# Altium footprint library con-amp-mt.PCBLIB: 51 footprints (part 4 of 4)
Each footprint in its own frame and in the unit in brackets; x right, y up, seen from the top. Pads: shape width x height; smd on the part's side, far side on the other; paste and mask are expansions set on the pad; w line width, h text height; cw(c..) or ccw(c..) is an arc to the next point about the centre after c.
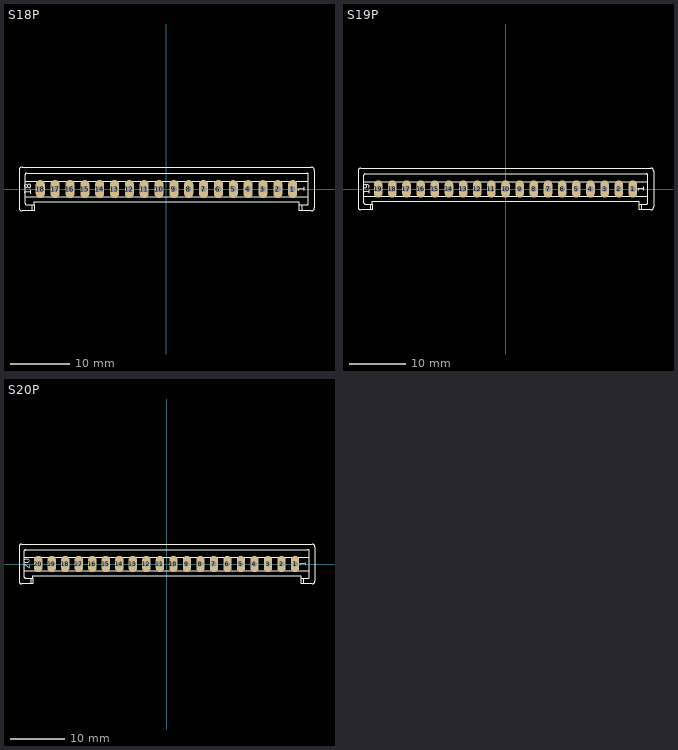
[diagram p3: the footprints below, top view; thin cyan lines are the x and y axes]

## S18P [mil]
pads (18):
  oval 60x120 hole 40: 1(836.61,0) 2(738.19,0) 3(639.76,0) 4(541.34,0) 5(442.91,0) 6(344.49,0) 7(246.06,0) 8(147.64,0) 9(49.21,0) 10(-49.21,0) 11(-147.64,0) 12(-246.06,0) 13(-344.49,0) 14(-442.91,0) 15(-541.34,0) 16(-639.39,0) 17(-738.39,0) 18(-836.39,0)
Top Overlay:
  lines w2: -892.4,-145 -892.4,-105 ; 895.63,-145 895.63,-105
  lines w6: -937.4,-50 -937.4,-95 ccw(c-927.4,-95) -927.4,-105 -892.4,-105 -877.4,-105 ; -937.4,-50 940.63,-50 ; -937.4,-50 -937.4,50 ; -937.4,50 940.63,50 ; -937.4,50 -937.4,95 cw(c-927.4,95) -927.4,105 930.63,105 cw(c930.63,95) 940.63,95 940.63,50 ; -877.4,-105 -877.4,-145 -892.4,-145 -957.4,-145 cw(c-957.4,-125) -977.4,-125 -977.4,125 cw(c-957.4,125) -957.4,145 960.63,145 cw(c960.63,125) 980.63,125 980.63,-125 cw(c960.63,-125) 960.63,-145 895.63,-145 880.63,-145 880.63,-105 ; -877.4,-105 -877.4,-85 880.63,-85 880.63,-105 ; 880.63,-105 895.63,-105 930.63,-105 ccw(c930.63,-95) 940.63,-95 940.63,-50 ; 940.63,-50 940.63,50
  text "1" at 933.61,-20 h77.5
  text "18" at -879.39,-40 h77.5
Mechanical 16:
  lines w6: -851.38,-15 -821.38,-15 ; -851.38,-15 -851.38,15 ; -851.38,-15 -821.38,15 ; -851.38,15 -821.38,15 ; -851.38,15 -821.38,-15 ; -821.38,-15 -821.38,15 ; -753.39,-15 -723.39,-15 ; -753.39,-15 -753.39,15 ; -753.39,-15 -723.39,15 ; -753.39,15 -723.39,15 ; -753.39,15 -723.39,-15 ; -723.39,-15 -723.39,15 ; -654.37,-15 -624.37,-15 ; -654.37,-15 -654.37,15 ; -654.37,-15 -624.37,15 ; -654.37,15 -624.37,15 ; -654.37,15 -624.37,-15 ; -624.37,-15 -624.37,15 ; -556.38,-15 -526.38,-15 ; -556.38,-15 -556.38,15 ; -556.38,-15 -526.38,15 ; -556.38,15 -526.38,15 ; -556.38,15 -526.38,-15 ; -526.38,-15 -526.38,15 ; -458.39,-15 -428.39,-15 ; -458.39,-15 -458.39,15 ; -458.39,-15 -428.39,15 ; -458.39,15 -428.39,15 ; -458.39,15 -428.39,-15 ; -428.39,-15 -428.39,15 ; -359.37,-15 -329.37,-15 ; -359.37,-15 -359.37,15 ; -359.37,-15 -329.37,15 ; -359.37,15 -329.37,15 ; -359.37,15 -329.37,-15 ; -329.37,-15 -329.37,15 ; -261.38,-15 -231.38,-15 ; -261.38,-15 -261.38,15 ; -261.38,-15 -231.38,15 ; -261.38,15 -231.38,15 ; -261.38,15 -231.38,-15 ; -231.38,-15 -231.38,15 ; -162.4,-15 -132.4,-15 ; -162.4,-15 -162.4,15 ; -162.4,-15 -132.4,15 ; -162.4,15 -132.4,15 ; -162.4,15 -132.4,-15 ; -132.4,-15 -132.4,15 ; -64.37,-15 -34.37,-15 ; -64.37,-15 -64.37,15 ; -64.37,-15 -34.37,15 ; -64.37,15 -34.37,15 ; -64.37,15 -34.37,-15 ; -34.37,-15 -34.37,15 ; 33.62,-15 33.62,15 ; 33.62,-15 63.62,15 ; 33.62,-15 63.62,-15 ; 33.62,15 63.62,15 ; 33.62,15 63.62,-15 ; 63.62,-15 63.62,15 ; 131.61,-15 161.61,-15 ; 131.61,-15 131.61,15 ; 131.61,-15 161.61,15 ; 131.61,15 161.61,15 ; 131.61,15 161.61,-15 ; 161.61,-15 161.61,15 ; 230.63,-15 260.63,-15 ; 230.63,-15 230.63,15 ; 230.63,-15 260.63,15 ; 230.63,15 260.63,15 ; 230.63,15 260.63,-15 ; 260.63,-15 260.63,15 ; 328.62,-15 358.62,15 ; 328.62,-15 328.62,15 ; 328.62,-15 358.62,-15 ; 328.62,15 358.62,-15 ; 328.62,15 358.62,15 ; 358.62,-15 358.62,15 ; 428.62,-15 458.62,15 ; 428.62,-15 458.62,-15 ; 428.62,-15 428.62,15 ; 428.62,15 458.62,-15 ; 428.62,15 458.62,15 ; 458.62,-15 458.62,15 ; 526.61,-15 526.61,15 ; 526.61,-15 556.61,-15 ; 526.61,-15 556.61,15 ; 526.61,15 556.61,15 ; 526.61,15 556.61,-15 ; 556.61,-15 556.61,15 ; 625.63,-15 655.63,-15 ; 625.63,-15 625.63,15 ; 625.63,-15 655.63,15 ; 625.63,15 655.63,15 ; 625.63,15 655.63,-15 ; 655.63,-15 655.63,15 ; 723.62,-15 723.62,15 ; 723.62,-15 753.62,15 ; 723.62,-15 753.62,-15 ; 723.62,15 753.62,15 ; 723.62,15 753.62,-15 ; 753.62,-15 753.62,15 ; 821.61,-15 821.61,15 ; 821.61,-15 851.61,15 ; 821.61,-15 851.61,-15 ; 821.61,15 851.61,15 ; 821.61,15 851.61,-15 ; 851.61,-15 851.61,15

## S19P [mil]
pads (19):
  oval 60x120 hole 40: 1(885.83,0) 2(787.4,0) 3(688.98,0) 4(590.55,0) 5(492.13,0) 6(393.7,0) 7(295.28,0) 8(196.85,0) 9(98.43,0) 10(0,0) 11(-98.43,0) 12(-196.85,0) 13(-295.28,0) 14(-393.7,0) 15(-492.13,0) 16(-590.55,0) 17(-688.98,0) 18(-787.4,0) 19(-885.83,0)
Top Overlay:
  lines w2: -941.18,-145 -941.18,-105 ; 944.84,-145 944.84,-105
  lines w6: -986.18,-50 -986.18,-95 ccw(c-976.18,-95) -976.18,-105 -941.18,-105 -926.18,-105 ; -986.18,-50 989.84,-50 ; -986.18,-50 -986.18,50 ; -986.18,50 989.84,50 ; -986.18,50 -986.18,95 cw(c-976.18,95) -976.18,105 979.84,105 cw(c979.84,95) 989.84,95 989.84,50 ; -926.18,-105 -926.18,-145 -941.18,-145 -1006.18,-145 cw(c-1006.18,-125) -1026.18,-125 -1026.18,125 cw(c-1006.18,125) -1006.18,145 1009.84,145 cw(c1009.84,125) 1029.84,125 1029.84,-125 cw(c1009.84,-125) 1009.84,-145 944.84,-145 929.84,-145 929.84,-105 ; -926.18,-105 -926.18,-85 929.84,-85 929.84,-105 ; 929.84,-105 944.84,-105 979.84,-105 ccw(c979.84,-95) 989.84,-95 989.84,-50 ; 989.84,-50 989.84,50
  text "1" at 982.83,-20 h77.5
  text "19" at -928.17,-40 h77.5
Mechanical 16:
  lines w6: -901.18,-15 -871.18,-15 ; -901.18,-15 -901.18,15 ; -901.18,-15 -871.18,15 ; -901.18,15 -871.18,-15 ; -901.18,15 -871.18,15 ; -871.18,-15 -871.18,15 ; -802.17,-15 -772.17,-15 ; -802.17,-15 -802.17,15 ; -802.17,-15 -772.17,15 ; -802.17,15 -772.17,-15 ; -802.17,15 -772.17,15 ; -772.17,-15 -772.17,15 ; -704.17,-15 -674.17,-15 ; -704.17,-15 -704.17,15 ; -704.17,-15 -674.17,15 ; -704.17,15 -674.17,-15 ; -704.17,15 -674.17,15 ; -674.17,-15 -674.17,15 ; -605.16,-15 -575.16,-15 ; -605.16,-15 -605.16,15 ; -605.16,-15 -575.16,15 ; -605.16,15 -575.16,-15 ; -605.16,15 -575.16,15 ; -575.16,-15 -575.16,15 ; -507.17,-15 -477.17,-15 ; -507.17,-15 -507.17,15 ; -507.17,-15 -477.17,15 ; -507.17,15 -477.17,-15 ; -507.17,15 -477.17,15 ; -477.17,-15 -477.17,15 ; -409.17,-15 -379.17,-15 ; -409.17,-15 -409.17,15 ; -409.17,-15 -379.17,15 ; -409.17,15 -379.17,-15 ; -409.17,15 -379.17,15 ; -379.17,-15 -379.17,15 ; -310.16,-15 -280.16,-15 ; -310.16,-15 -310.16,15 ; -310.16,-15 -280.16,15 ; -310.16,15 -280.16,-15 ; -310.16,15 -280.16,15 ; -280.16,-15 -280.16,15 ; -212.17,-15 -182.17,-15 ; -212.17,-15 -212.17,15 ; -212.17,-15 -182.17,15 ; -212.17,15 -182.17,-15 ; -212.17,15 -182.17,15 ; -182.17,-15 -182.17,15 ; -113.19,-15 -83.19,-15 ; -113.19,-15 -113.19,15 ; -113.19,-15 -83.19,15 ; -113.19,15 -83.19,-15 ; -113.19,15 -83.19,15 ; -83.19,-15 -83.19,15 ; -15.16,-15 14.84,-15 ; -15.16,-15 -15.16,15 ; -15.16,-15 14.84,15 ; -15.16,15 14.84,15 ; -15.16,15 14.84,-15 ; 14.84,-15 14.84,15 ; 82.83,-15 82.83,15 ; 82.83,-15 112.83,15 ; 82.83,-15 112.83,-15 ; 82.83,15 112.83,15 ; 82.83,15 112.83,-15 ; 112.83,-15 112.83,15 ; 180.83,-15 210.83,-15 ; 180.83,-15 180.83,15 ; 180.83,-15 210.83,15 ; 180.83,15 210.83,15 ; 180.83,15 210.83,-15 ; 210.83,-15 210.83,15 ; 279.84,-15 309.84,-15 ; 279.84,-15 279.84,15 ; 279.84,-15 309.84,15 ; 279.84,15 309.84,15 ; 279.84,15 309.84,-15 ; 309.84,-15 309.84,15 ; 377.83,-15 407.83,15 ; 377.83,-15 377.83,15 ; 377.83,-15 407.83,-15 ; 377.83,15 407.83,-15 ; 377.83,15 407.83,15 ; 407.83,-15 407.83,15 ; 477.83,-15 507.83,15 ; 477.83,-15 507.83,-15 ; 477.83,-15 477.83,15 ; 477.83,15 507.83,-15 ; 477.83,15 507.83,15 ; 507.83,-15 507.83,15 ; 575.83,-15 575.83,15 ; 575.83,-15 605.83,-15 ; 575.83,-15 605.83,15 ; 575.83,15 605.83,15 ; 575.83,15 605.83,-15 ; 605.83,-15 605.83,15 ; 674.84,-15 704.84,-15 ; 674.84,-15 674.84,15 ; 674.84,-15 704.84,15 ; 674.84,15 704.84,15 ; 674.84,15 704.84,-15 ; 704.84,-15 704.84,15 ; 772.83,-15 772.83,15 ; 772.83,-15 802.83,15 ; 772.83,-15 802.83,-15 ; 772.83,15 802.83,15 ; 772.83,15 802.83,-15 ; 802.83,-15 802.83,15 ; 870.83,-15 870.83,15 ; 870.83,-15 900.83,15 ; 870.83,-15 900.83,-15 ; 870.83,15 900.83,15 ; 870.83,15 900.83,-15 ; 900.83,-15 900.83,15

## S20P [mil]
pads (20):
  oval 60x120 hole 40: 1(935.04,0) 2(836.61,0) 3(738.19,0) 4(639.76,0) 5(541.34,0) 6(442.91,0) 7(344.49,0) 8(246.06,0) 9(147.64,0) 10(49.21,0) 11(-49.21,0) 12(-147.64,0) 13(-246.06,0) 14(-344.49,0) 15(-442.91,0) 16(-541.34,0) 17(-639.76,0) 18(-738.19,0) 19(-836.61,0) 20(-935.04,0)
Top Overlay:
  lines w2: -989.96,-145 -989.96,-105 ; 994.06,-145 994.06,-105
  lines w6: -1034.96,-50 -1034.96,-95 ccw(c-1024.96,-95) -1024.96,-105 -989.96,-105 -974.96,-105 ; -1034.96,-50 1039.06,-50 ; -1034.96,-50 -1034.96,50 ; -1034.96,50 1039.06,50 ; -1034.96,50 -1034.96,95 cw(c-1024.96,95) -1024.96,105 1029.06,105 cw(c1029.06,95) 1039.06,95 1039.06,50 ; -974.96,-105 -974.96,-145 -989.96,-145 -1054.96,-145 cw(c-1054.96,-125) -1074.96,-125 -1074.96,125 cw(c-1054.96,125) -1054.96,145 1059.06,145 cw(c1059.06,125) 1079.06,125 1079.06,-125 cw(c1059.06,-125) 1059.06,-145 994.06,-145 979.06,-145 979.06,-105 ; -974.96,-105 -974.96,-85 979.06,-85 979.06,-105 ; 979.06,-105 994.06,-105 1029.06,-105 ccw(c1029.06,-95) 1039.06,-95 1039.06,-50 ; 1039.06,-50 1039.06,50
  text "1" at 1032.04,-20 h77.5
  text "20" at -976.96,-40 h77.5
Mechanical 16:
  lines w6: -949.96,-15 -949.96,15 ; -949.96,-15 -919.96,-15 ; -949.96,-15 -919.96,15 ; -949.96,15 -919.96,-15 ; -949.96,15 -919.96,15 ; -919.96,-15 -919.96,15 ; -851.97,-15 -851.97,15 ; -851.97,-15 -821.97,-15 ; -851.97,-15 -821.97,15 ; -851.97,15 -821.97,-15 ; -851.97,15 -821.97,15 ; -821.97,-15 -821.97,15 ; -752.95,-15 -752.95,15 ; -752.95,-15 -722.95,-15 ; -752.95,-15 -722.95,15 ; -752.95,15 -722.95,-15 ; -752.95,15 -722.95,15 ; -722.95,-15 -722.95,15 ; -654.96,-15 -654.96,15 ; -654.96,-15 -624.96,-15 ; -654.96,-15 -624.96,15 ; -654.96,15 -624.96,-15 ; -654.96,15 -624.96,15 ; -624.96,-15 -624.96,15 ; -555.94,-15 -555.94,15 ; -555.94,-15 -525.94,-15 ; -555.94,-15 -525.94,15 ; -555.94,15 -525.94,-15 ; -555.94,15 -525.94,15 ; -525.94,-15 -525.94,15 ; -457.95,-15 -457.95,15 ; -457.95,-15 -427.95,-15 ; -457.95,-15 -427.95,15 ; -457.95,15 -427.95,-15 ; -457.95,15 -427.95,15 ; -427.95,-15 -427.95,15 ; -359.96,-15 -359.96,15 ; -359.96,-15 -329.96,-15 ; -359.96,-15 -329.96,15 ; -359.96,15 -329.96,-15 ; -359.96,15 -329.96,15 ; -329.96,-15 -329.96,15 ; -260.94,-15 -260.94,15 ; -260.94,-15 -230.94,-15 ; -260.94,-15 -230.94,15 ; -260.94,15 -230.94,-15 ; -260.94,15 -230.94,15 ; -230.94,-15 -230.94,15 ; -162.95,-15 -162.95,15 ; -162.95,-15 -132.95,-15 ; -162.95,-15 -132.95,15 ; -162.95,15 -132.95,-15 ; -162.95,15 -132.95,15 ; -132.95,-15 -132.95,15 ; -63.98,-15 -63.98,15 ; -63.98,-15 -33.98,-15 ; -63.98,-15 -33.98,15 ; -63.98,15 -33.98,-15 ; -63.98,15 -33.98,15 ; -33.98,-15 -33.98,15 ; 34.06,-15 64.06,-15 ; 34.06,-15 34.06,15 ; 34.06,-15 64.06,15 ; 34.06,15 64.06,15 ; 34.06,15 64.06,-15 ; 64.06,-15 64.06,15 ; 132.05,-15 132.05,15 ; 132.05,-15 162.05,15 ; 132.05,-15 162.05,-15 ; 132.05,15 162.05,15 ; 132.05,15 162.05,-15 ; 162.05,-15 162.05,15 ; 230.04,-15 260.04,-15 ; 230.04,-15 230.04,15 ; 230.04,-15 260.04,15 ; 230.04,15 260.04,15 ; 230.04,15 260.04,-15 ; 260.04,-15 260.04,15 ; 329.06,-15 359.06,-15 ; 329.06,-15 329.06,15 ; 329.06,-15 359.06,15 ; 329.06,15 359.06,15 ; 329.06,15 359.06,-15 ; 359.06,-15 359.06,15 ; 427.05,-15 457.05,15 ; 427.05,-15 427.05,15 ; 427.05,-15 457.05,-15 ; 427.05,15 457.05,-15 ; 427.05,15 457.05,15 ; 457.05,-15 457.05,15 ; 527.05,-15 557.05,15 ; 527.05,-15 557.05,-15 ; 527.05,-15 527.05,15 ; 527.05,15 557.05,-15 ; 527.05,15 557.05,15 ; 557.05,-15 557.05,15 ; 625.04,-15 625.04,15 ; 625.04,-15 655.04,-15 ; 625.04,-15 655.04,15 ; 625.04,15 655.04,15 ; 625.04,15 655.04,-15 ; 655.04,-15 655.04,15 ; 724.06,-15 754.06,-15 ; 724.06,-15 724.06,15 ; 724.06,-15 754.06,15 ; 724.06,15 754.06,15 ; 724.06,15 754.06,-15 ; 754.06,-15 754.06,15 ; 822.05,-15 822.05,15 ; 822.05,-15 852.05,15 ; 822.05,-15 852.05,-15 ; 822.05,15 852.05,15 ; 822.05,15 852.05,-15 ; 852.05,-15 852.05,15 ; 920.04,-15 920.04,15 ; 920.04,-15 950.04,15 ; 920.04,-15 950.04,-15 ; 920.04,15 950.04,15 ; 920.04,15 950.04,-15 ; 950.04,-15 950.04,15